# Altium footprint library Resistor2010_1.PcbLib: 1 footprints
Each footprint in its own frame and in the unit in brackets; x right, y up, seen from the top. Pads: shape width x height; smd on the part's side, far side on the other; paste and mask are expansions set on the pad; w line width, h text height; cw(c..) or ccw(c..) is an arc to the next point about the centre after c.
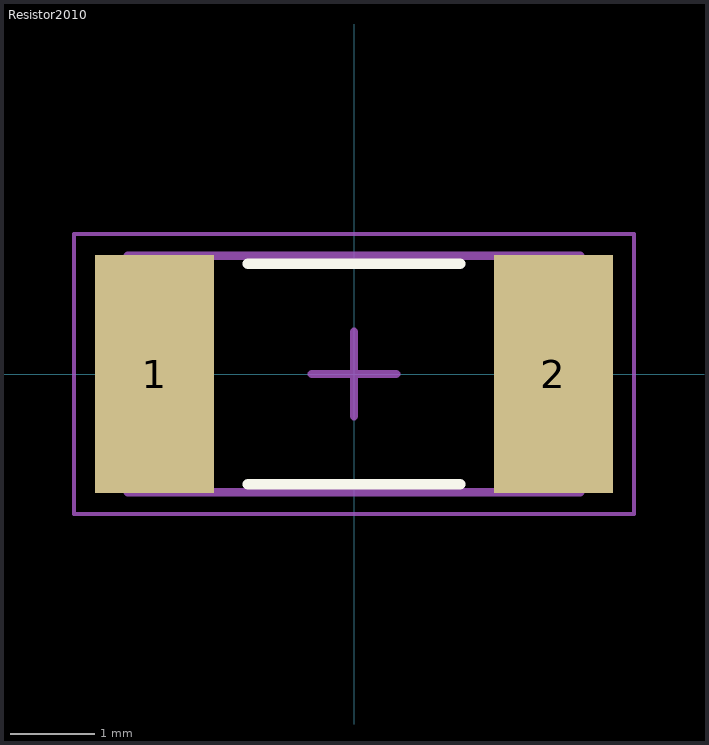
[diagram p0: the footprint, top view; thin cyan lines are the x and y axes]

## Resistor2010 [mm]
height 0.89
pads (2):
  rect 1.4x2.8 smd: 1(-2.35,0) 2(2.35,0)
Top Overlay:
  lines w0.127: -1.25,-1.3 1.25,-1.3 ; -1.25,1.3 1.25,1.3
Mechanical 13:
  lines w0.1: -2.665,-1.395 2.665,-1.395 2.665,1.395 -2.665,1.395 -2.665,-1.395
Mechanical 15:
  lines w0.05: -3.3,-1.65 3.3,-1.65 3.3,1.65 -3.3,1.65 -3.3,-1.65
  lines w0.1: -0.5,0 0.5,0 ; 0,-0.5 0,0.5
3D body "Resistor2010.step": height 0.89, standoff 0, extent -2.665,-1.395 2.665,1.395